# Altium footprint library Main.PcbLib: 62 footprints (part 4 of 4)
Each footprint in its own frame and in the unit in brackets; x right, y up, seen from the top. Pads: shape width x height; smd on the part's side, far side on the other; paste and mask are expansions set on the pad; w line width, h text height; cw(c..) or ccw(c..) is an arc to the next point about the centre after c.
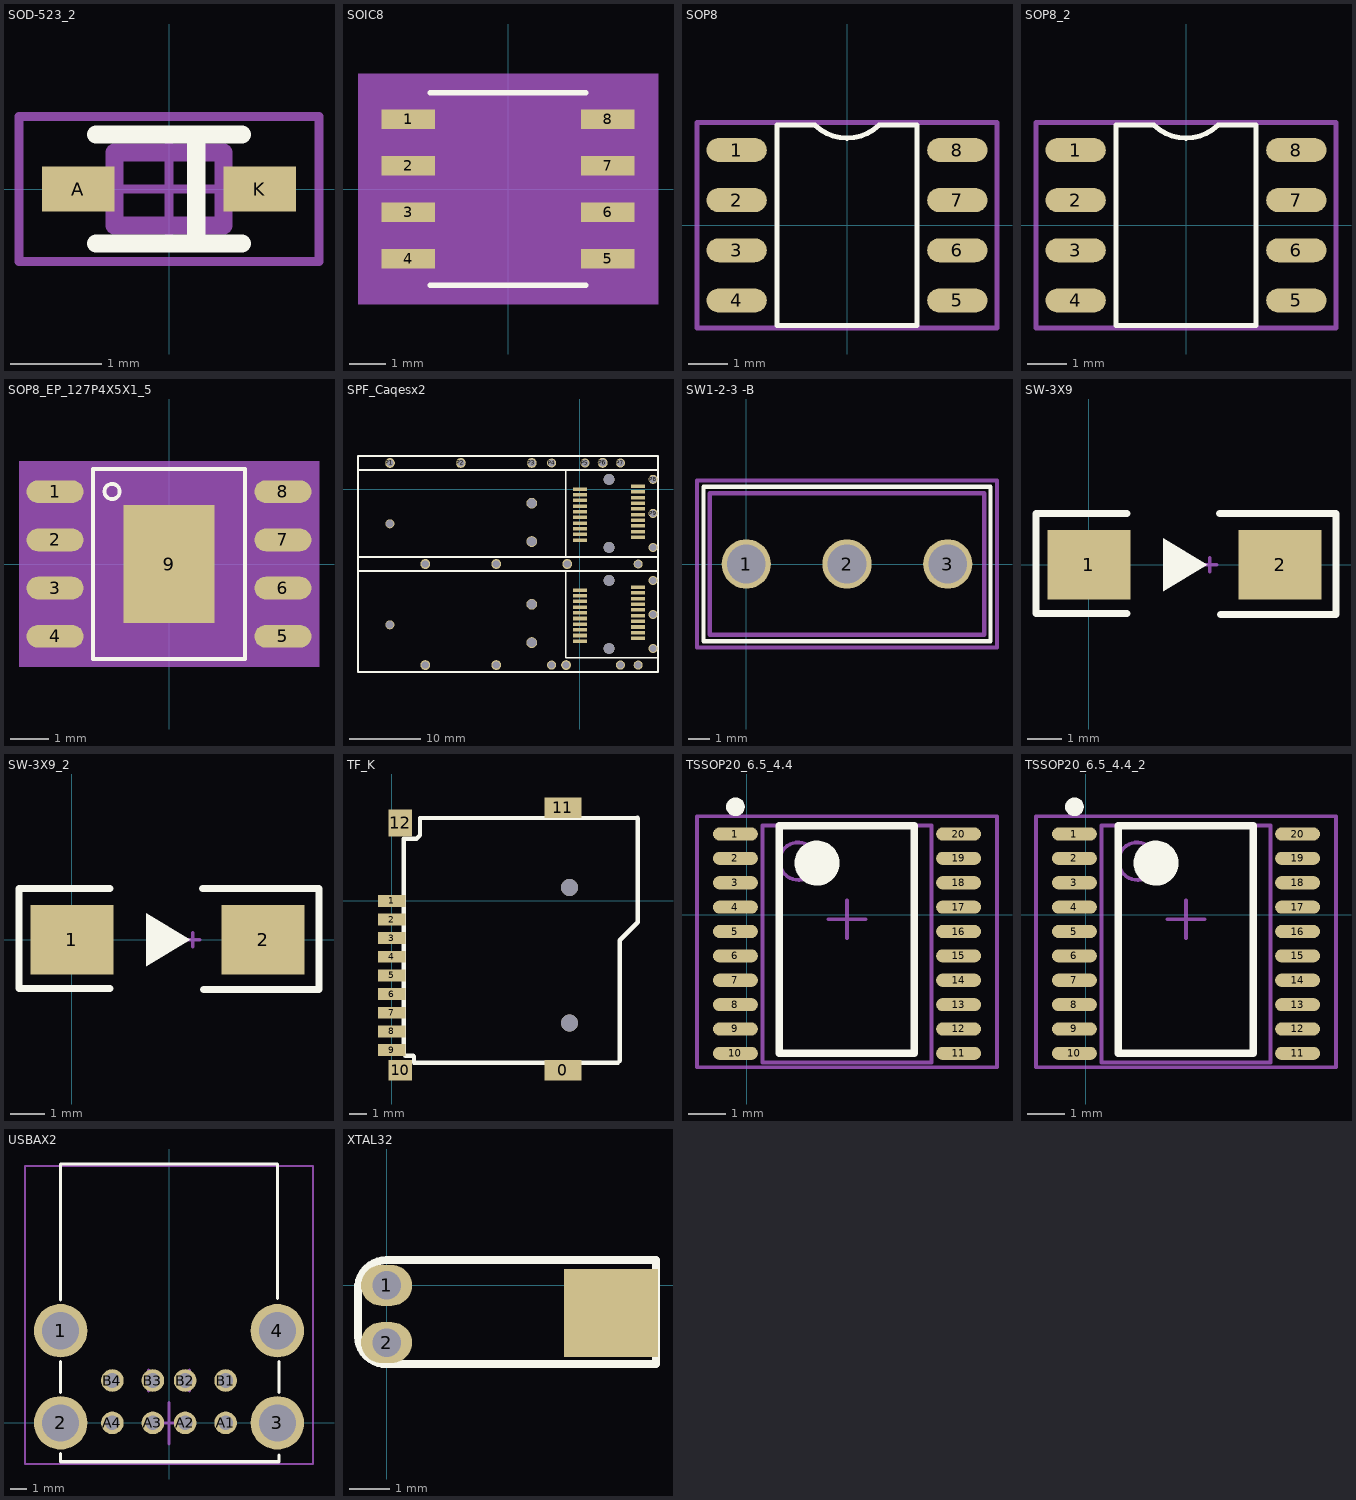
[diagram p3: the footprints below, top view; thin cyan lines are the x and y axes]

## SOD-523_2 [mm]
pads (2):
  rect 0.8x0.5 smd: A(-1,0) K(1,0)
Top Overlay:
  lines w0.2: -0.8,-0.6 0.8,-0.6 ; -0.8,0.6 0.8,0.6 ; 0.3,-0.6 0.3,0.6
Mechanical 13:
  lines w0.2: -0.6,-0.4 0.6,-0.4 0.6,0.4 -0.6,0.4 -0.6,-0.4
Mechanical 15:
  lines w0.1: -0.5,0 0.5,0 ; 0,-0.6 0,0.6 ; -1.651,-0.8 1.651,-0.8 1.651,0.8 -1.651,0.8 -1.651,-0.8
3D body: height 2, standoff 0, extent -0.6,-0.4 0.6,0.4

## SOIC8 [mil]
pads (8):
  rect 57.5x21 smd paste+0 mask+0: 1(-107.25,75) 2(-107.25,25) 3(-107.25,-25) 4(-107.25,-75) 5(107.25,-75) 6(107.25,-25) 7(107.25,25) 8(107.25,75)
Top Overlay:
  lines w6: -83.5,-103.5 83.5,-103.5 ; -83.5,103.5 83.5,103.5
Mechanical 5:
  region: 161,-123.5 -161,-123.5 -161,123.5 161,123.5
Mechanical 13:
  lines w0: -12,98.5 ccw(c0,98.5) 12,98.5
  lines w1: -122,-84.5 -78.5,-84.5 -78.5,-65.5 -122,-65.5 -122,-84.5 ; -122,-34.5 -78.5,-34.5 -78.5,-15.5 -122,-15.5 -122,-34.5 ; -122,15.5 -78.5,15.5 -78.5,34.5 -122,34.5 -122,15.5 ; -122,65.5 -78.5,65.5 -78.5,84.5 -122,84.5 -122,65.5 ; -78.5,-98.5 -78.5,98.5 78.5,98.5 78.5,-98.5 -78.5,-98.5 ; 78.5,-84.5 122,-84.5 122,-65.5 78.5,-65.5 78.5,-84.5 ; 78.5,-34.5 122,-34.5 122,-15.5 78.5,-15.5 78.5,-34.5 ; 78.5,15.5 122,15.5 122,34.5 78.5,34.5 78.5,15.5 ; 78.5,65.5 122,65.5 122,84.5 78.5,84.5 78.5,65.5
Mechanical 15:
  region: -88.5,-95.5 -146,-95.5 -146,95.5 -88.5,95.5 -88.5,108.5 88.5,108.5 88.5,95.5 146,95.5 146,-95.5 88.5,-95.5 88.5,-108.5 -88.5,-108.5
  lines w6: -146,-95.5 -88.5,-95.5 -88.5,-108.5 88.5,-108.5 88.5,-95.5 146,-95.5 146,95.5 88.5,95.5 88.5,108.5 -88.5,108.5 -88.5,95.5 -146,95.5 -146,-95.5
3D body "SOIC8.SLDPRT": height 66.93, standoff -1.97, extent -118.11,-98.42 118.11,98.43

## SOP8 [mil]
pads (8):
  oval 60x24 smd: 1(-110,75) 2(-110,25) 3(-110,-25) 4(-110,-75) 5(110,-75) 6(110,-25) 7(110,25) 8(110,75)
Top Overlay:
  lines w5: -70,-100 -70,100 -32,100 ccw(c0,132) 32,100 70,100 70,-100 -70,-100
Mechanical 15:
  lines w5: -149.61,-102.36 -149.61,102.36 149.61,102.36 149.61,-102.36 -149.61,-102.36

## SOP8_2 [mil]
pads (8):
  oval 60x24 smd: 1(-110,75) 2(-110,25) 3(-110,-25) 4(-110,-75) 5(110,-75) 6(110,-25) 7(110,25) 8(110,75)
Top Overlay:
  lines w5: -70,-100 70,-100 70,100 32,100 cw(c0,132) -32,100 -70,100 -70,-100
Mechanical 15:
  lines w5: -149.61,-102.36 149.61,-102.36 149.61,102.36 -149.61,102.36 -149.61,-102.36

## SOP8_EP_127P4X5X1_5 [mm]
pads (9):
  oval 1.5x0.6 smd: 1(-3,1.905) 2(-3,0.635) 3(-3,-0.635) 4(-3,-1.905) 5(3,-1.905) 6(3,-0.635) 7(3,0.635) 8(3,1.905)
  rect 2.4x3.1 smd: 9(0,0)
Top Overlay:
  circle w0.1: c-1.5,1.91 r0.2
  lines w0.1: -2,-2.5 -2,2.5 2,2.5 2,-2.5 -2,-2.5
Mechanical 7:
  lines w0.025: -2,-2.5 -2,2.5 2,2.5 2,-2.5 -2,-2.5
Mechanical 8:
  region: -3.95,-2.7 3.95,-2.7 3.95,2.7 -3.95,2.7
3D body: height 3.81, standoff 0, extent -3.95,-2.7 3.95,2.7

## SPF_Caqesx2 [mm]
pads (73):
  rect 2x0.5 smd: A1(0,0) A2(0,-0.8) A3(0,-1.6) A4(0,-2.4) A5(0,-3.2) A6(0,-4) A7(0,-4.8) A8(0,-5.6) A9(0,-6.4) A10(0,-7.2) A11(8.2,-6.8) A12(8.2,-6) A13(8.2,-5.2) A14(8.2,-4.4) A15(8.2,-3.6) A16(8.2,-2.8) A17(8.2,-2) A18(8.2,-1.2) A19(8.2,-0.4) A20(8.2,0.4) B1(0,-14.25) B2(0,-15.05) B3(0,-15.85) B4(0,-16.65) B5(0,-17.45) B6(0,-18.25) B7(0,-19.05) B8(0,-19.85) B9(0,-20.65) B10(0,-21.45) B11(8.2,-21.05) B12(8.2,-20.25) B13(8.2,-19.45) B14(8.2,-18.65) B15(8.2,-17.85) B16(8.2,-17.05) B17(8.2,-16.25) B18(8.2,-15.45) B19(8.2,-14.65) B20(8.2,-13.85)
  round 1.524 hole 1.524: A21(4.1,1.364) A22(4.1,-8.235) B21(4.1,-12.886) B22(4.1,-22.485)
  round 1.397 hole 1: P1(-26.8,3.68) P2(-16.8,3.68) P3(-6.8,3.68)
  round 1.27 hole 1: P4(-4,3.68) P5(0.7,3.68) P7(5.7,3.68) P8(10.3,1.364) P9(10.3,-3.436) P10(10.3,-8.235) P14(8.2,-10.57) P18(10.3,-12.886) P19(10.3,-17.686) P20(10.3,-22.485) P24(8.2,-24.82) P25(5.7,-24.82) P27(-4,-24.82)
  round 1.397 hole 1.016: P6(3.2,3.694) P15(-1.8,-10.57) P16(-11.809,-10.57) P17(-21.809,-10.57) P26(-1.95,-24.82) P28(-11.809,-24.82) P29(-21.809,-24.82)
  round 1.524 hole 1.3: P11(-6.8,-2) P12(-6.8,-7.4) P21(-6.8,-16.25) P22(-6.8,-21.65)
  round 1.27 hole 1.05: P13(-26.8,-4.9) P23(-26.8,-19.15)
Top Overlay:
  lines w0.203: -2.035,-11.567 -2.035,-23.82 11,-23.82 ; -2.035,2.683 -2.035,-9.57 11,-9.57 ; -2.035,4.68 11,4.68
  lines w0.254: -31.297,-9.571 -31.297,-25.817 11.001,-25.817 ; -31.297,2.683 11.001,2.683 ; -31.297,4.679 -31.297,-11.567 11.001,-11.567 ; -31.297,-9.57 11,-9.57 11,-25.816 ; -31.297,4.68 11,4.68 11,-11.566

## SW1-2-3 -B [mm]
pads (3):
  round 2.3 hole 1.8: 1(0,0) 2(4.7,0) 3(9.4,0)
Top Overlay:
  lines w0.203: -2,-3.6 -2,3.6 11.4,3.6 11.4,-3.6 -2,-3.6
Mechanical 13:
  lines w0.203: -1.7,-3.3 -1.7,3.3 11.1,3.3 11.1,-3.3 -1.7,-3.3
Mechanical 15:
  lines w0.203: 3.7,0 5.7,0 ; 4.7,-1 4.7,0.9 ; -2.3,-3.9 -2.3,3.9 11.7,3.9 11.7,-3.9 -2.3,-3.9
3D body: height 11, standoff 0, extent -1.7,-3.3 11.1,3.3

## SW-3X9 [mm]
pads (2):
  rect 2.4x2 smd: 1(0,0) 2(5.5,0)
Top Overlay:
  region: 3.404,0 2.134,0.762 2.134,-0.762
  lines w0.2: 1.1,-1.397 -1.524,-1.397 -1.524,1.473 1.1,1.473 ; 3.759,1.473 7.112,1.473 ; 3.785,-1.422 7.112,-1.422 ; 7.112,-1.397 7.112,1.422
Mechanical 1:
  lines w0.1: 3.275,0 3.675,0 ; 3.475,-0.2 3.475,0.2
3D body: height 1.78, standoff 0, extent 1.524,-0.559 3.988,0.533
3D body: height 1.02, standoff 0, extent -1.422,-1.295 6.934,1.346

## SW-3X9_2 [mm]
pads (2):
  rect 2.4x2 smd: 1(0,0) 2(5.5,0)
Top Overlay:
  region: 3.404,0 2.134,0.762 2.134,-0.762
  lines w0.2: 1.1,-1.397 -1.524,-1.397 -1.524,1.473 1.1,1.473 ; 3.759,1.473 7.112,1.473 ; 3.785,-1.422 7.112,-1.422 ; 7.112,-1.397 7.112,1.422
Mechanical 1:
  lines w0.1: 3.275,0 3.675,0 ; 3.475,-0.2 3.475,0.2
3D body: height 1.02, standoff 0, extent -1.422,-1.295 6.934,1.346
3D body: height 1.78, standoff 0, extent 1.524,-0.559 3.988,0.533

## TF_K [mm]
pads (13):
  rect 2.2x1.2 smd: 0(10.1,-10) 11(10.1,5.5)
  rect 1.6x0.7 smd: 1(0,0) 2(0,-1.1) 3(0,-2.2) 4(0,-3.3) 5(0,-4.4) 6(0,-5.5) 7(0,-6.6) 8(0,-7.7) 9(0,-8.8)
  rect 1.4x1.2 smd: 10(0.5,-10)
  rect 1.4x1.6 smd: 12(0.5,4.6)
via 10.5,-7.2 diameter 1 hole 1
via 10.5,0.8 diameter 1 hole 1
Top Overlay:
  lines w0.254: 14.5,4.9 1.667,4.884 1.667,3.868 1.464,3.665 0.702,3.665 0.702,-9.035 0.804,-9.136 1.261,-9.136 1.312,-9.187 1.312,-9.543 13.351,-9.543 13.453,-9.441 13.453,-2.329 14.52,-1.262 14.52,4.88

## TSSOP20_6.5_4.4 [mm]
pads (20):
  oval 1.2x0.35 smd: 1(-0.305,2.159) 2(-0.305,1.509) 3(-0.305,0.859) 4(-0.305,0.209) 5(-0.305,-0.441) 6(-0.305,-1.091) 7(-0.305,-1.741) 8(-0.305,-2.391) 9(-0.305,-3.041) 10(-0.305,-3.691) 11(5.645,-3.691) 12(5.645,-3.041) 13(5.645,-2.391) 14(5.645,-1.741) 15(5.645,-1.091) 16(5.645,-0.441) 17(5.645,0.209) 18(5.645,0.859) 19(5.645,1.509) 20(5.645,2.159)
Top Overlay:
  circle w0.25: c-0.305,2.884 r0.125
  circle w0.6: c1.87,1.384 r0.3
  lines w0.2: 0.87,-3.683 0.87,2.384 4.47,2.384 4.47,-3.683 0.87,-3.683
Mechanical 13:
  circle w0.1: c1.37,1.434 r0.5
  lines w0.1: 0.42,-3.937 0.42,2.384 4.92,2.384 4.92,-3.937 0.42,-3.937
Mechanical 15:
  lines w0.1: 2.17,-0.116 3.17,-0.116 ; 2.67,-0.616 2.67,0.384 ; -1.33,-4.064 -1.33,2.634 6.67,2.634 6.67,-4.064 -1.33,-4.064
3D body: height 2.65, standoff 0.1, extent 0.42,-3.683 4.92,2.384

## TSSOP20_6.5_4.4_2 [mm]
pads (20):
  oval 1.2x0.35 smd: 1(-0.305,2.159) 2(-0.305,1.509) 3(-0.305,0.859) 4(-0.305,0.209) 5(-0.305,-0.441) 6(-0.305,-1.091) 7(-0.305,-1.741) 8(-0.305,-2.391) 9(-0.305,-3.041) 10(-0.305,-3.691) 11(5.645,-3.691) 12(5.645,-3.041) 13(5.645,-2.391) 14(5.645,-1.741) 15(5.645,-1.091) 16(5.645,-0.441) 17(5.645,0.209) 18(5.645,0.859) 19(5.645,1.509) 20(5.645,2.159)
Top Overlay:
  circle w0.6: c1.87,1.384 r0.3
  circle w0.25: c-0.305,2.884 r0.125
  lines w0.2: 0.87,-3.683 4.47,-3.683 4.47,2.384 0.87,2.384 0.87,-3.683
Mechanical 13:
  circle w0.1: c1.37,1.434 r0.5
  lines w0.1: 0.42,-3.937 4.92,-3.937 4.92,2.384 0.42,2.384 0.42,-3.937
Mechanical 15:
  lines w0.1: 2.17,-0.116 3.17,-0.116 ; 2.67,-0.616 2.67,0.384 ; -1.33,-4.064 6.67,-4.064 6.67,2.634 -1.33,2.634 -1.33,-4.064
3D body: height 2.65, standoff 0.1, extent 0.42,-3.683 4.92,2.384

## USBAX2 [mm]
pads (12):
  round 3.3 hole 2.3: 1(-6.7,5.7) 2(-6.7,0) 3(6.7,0) 4(6.7,5.7)
  round 1.4 hole 0.9: A1(3.5,0) A2(1,0) A3(-1,0) A4(-3.5,0) B1(3.5,2.62) B2(1,2.62) B3(-1,2.62) B4(-3.5,2.62)
Top Overlay:
  lines w0.203: -6.7,-1.9 -6.7,-2.4 6.8,-2.4 6.8,-2 ; -6.7,1.9 -6.7,3.8 ; -6.7,7.6 -6.7,16 6.7,16 6.7,7.7 ; 6.8,1.9 6.8,3.8
Mechanical 13:
  lines w0.203: -1.27,1.985 -1.27,3.255 ; 1.27,1.985 1.27,3.255
Mechanical 15:
  lines w0.127: -8.89,-2.54 8.89,-2.54 8.89,15.875 -8.89,15.875 -8.89,-2.54
  lines w0.203: -1.4,0 1.14,0 ; -1.27,1.985 -1.27,3.255 ; 0,-1.3 0,1.24 ; 1.27,1.985 1.27,3.255

## XTAL32 [mil]
pads (3):
  oval 50x40 hole 28: 1(0,0) 2(0,-56)
  rect 92.13x86 smd: ""(220,-27)
Top Overlay:
  lines w8: -28,-50 ccw(c-0.5,-49.5) 0,-77 264,-77 264,25 0,25 ccw(c0.5,-3.5) -28,-4 -28,-50